# Altium integrated library california-micro-devices.IntLib: 1 symbol
Pins are listed as number, name and electrical type; pins without a type are passive.

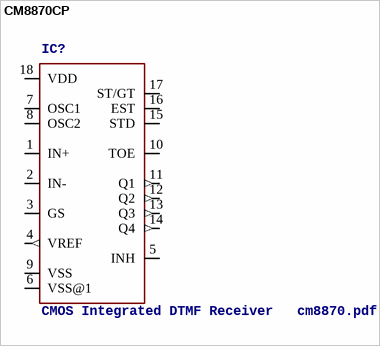
[diagram p0: symbol CM8870CP]

## CM8870CP
designator IC?, comment CMOS Integrated DTMF Receiver   cm8870.pdf
OC_FARNELL: unknown; OC_NEWARK: unknown
footprint DIL18
pins: 1 IN+, 2 IN-, 3 GS, 4 VREF (out), 5 INH, 6 VSS@1 (power), 7 OSC1, 8 OSC2, 9 VSS (power), 10 TOE, 11 Q1 (out), 12 Q2 (out), 13 Q3 (out), 14 Q4 (out), 15 STD, 16 EST, 17 ST/GT, 18 VDD (power)